# Altium schematic symbol library Teensy.SchLib: 1 symbol
Pins are listed as number, name and electrical type; pins without a type are passive.

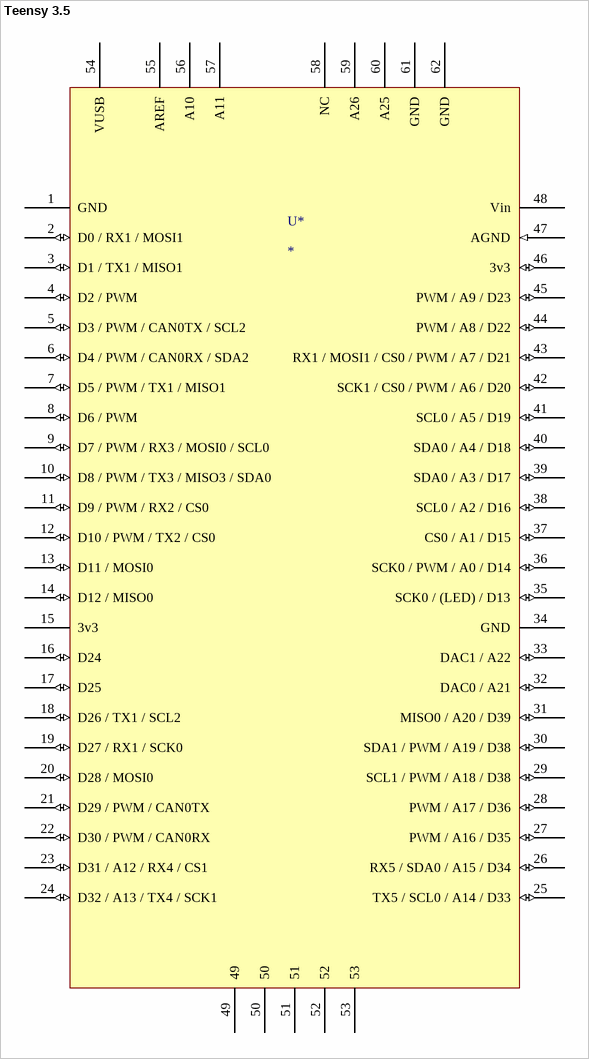
[diagram p0: symbol Teensy 3.5]

## Teensy 3.5
designator U*
footprint TEENSY3.5 (https://www.pjrc.com/teensy/)
pins: 1 GND (power), 2 D0 / RX1 / MOSI1 (io), 3 D1 / TX1 / MISO1 (io), 4 D2 / PWM (io), 5 D3 / PWM / CAN0TX / SCL2 (io), 6 D4 / PWM / CAN0RX / SDA2 (io), 7 D5 / PWM / TX1 / MISO1 (io), 8 D6 / PWM (io), 9 D7 / PWM / RX3 / MOSI0 / SCL0 (io), 10 D8 / PWM / TX3 / MISO3 / SDA0 (io), 11 D9 / PWM / RX2 / CS0 (io), 12 D10 / PWM / TX2 / CS0 (io), 13 D11 / MOSI0 (io), 14 D12 / MISO0 (io), 15 3v3 (power), 16 D24 (io), 17 D25 (io), 18 D26 / TX1 / SCL2 (io), 19 D27 / RX1 / SCK0 (io), 20 D28 / MOSI0 (io), 21 D29 / PWM / CAN0TX (io), 22 D30 / PWM / CAN0RX (io), 23 D31 / A12 / RX4 / CS1 (io), 24 D32 / A13 / TX4 / SCK1 (io), 25 TX5 / SCL0 / A14 / D33 (io), 26 RX5 / SDA0 / A15 / D34 (io), 27 PWM / A16 / D35 (io), 28 PWM / A17 / D36 (io), 29 SCL1 / PWM / A18 / D38 (io), 30 SDA1 / PWM / A19 / D38 (io), 31 MISO0 / A20 / D39 (io), 32 DAC0 / A21 (io), 33 DAC1 / A22 (io), 34 GND (power), 35 SCK0 / (LED) / D13 (io), 36 SCK0 / PWM / A0 / D14 (io), 37 CS0 / A1 / D15 (io), 38 SCL0 / A2 / D16 (io), 39 SDA0 / A3 / D17 (io), 40 SDA0 / A4 / D18 (io), 41  SCL0 / A5 / D19 (io), 42 SCK1 / CS0 / PWM / A6 / D20 (io), 43 RX1 / MOSI1 / CS0 / PWM / A7 / D21 (io), 44 PWM / A8 / D22 (io), 45 PWM / A9 / D23 (io), 46 3v3 (io), 47 AGND (in), 48 Vin (power), 49, 50, 51, 52, 53, 54 VUSB, 55 AREF, 56 A10, 57 A11, 58 NC, 59 A26, 60 A25, 61 GND, 62 GND